# EAGLE library part F09-SLIM (library COM_ETH-V1)
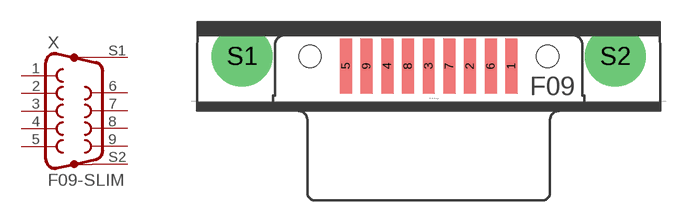
[diagram p0: symbol with the pads of F09G-SLIM; footprint F09G-SLIM]

Designator prefix X

## F09-SLIM  [F09G-SLIM]
1  1  pas
2  2  pas
3  3  pas
4  4  pas
5  5  pas
6  6  pas
7  7  pas
8  8  pas
9  9  pas
S1  G1  pas
S2  G2  pas

## Footprint F09G-SLIM (pad centres in mm)
smd 0.8 x 3.7: 1 5.54,-1.85; 2 2.77,-1.85; 3 0,-1.85; 4 -2.77,-1.85; 5 -5.54,-1.85; 6 4.155,-1.85; 7 1.385,-1.85; 8 -1.385,-1.85; 9 -4.155,-1.85
drill 3.05 round: S1 -12.495,-1.2; S2 12.495,-1.2
hole 1.5 at -7.95,-1.2
hole 1.5 at 7.95,-1.2